# Altium schematic symbol library 0826-1X1T-43.SchLib: 1 symbol
Pins are listed as number, name and electrical type; pins without a type are passive.

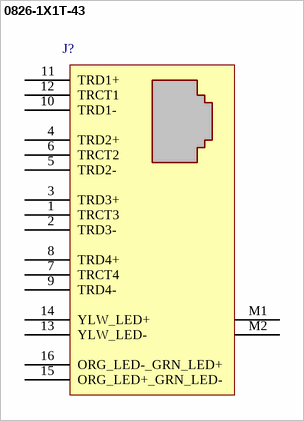
[diagram p0: symbol 0826-1X1T-43]

## 0826-1X1T-43
designator J?
pins: 1 TRCT3, 2 TRD3-, 3 TRD3+, 4 TRD2+, 5 TRD2-, 6 TRCT2, 7 TRCT4, 8 TRD4+, 9 TRD4-, 10 TRD1-, 11 TRD1+, 12 TRCT1, 13 YLW_LED-, 14 YLW_LED+, 15 ORG_LED+_GRN_LED-, 16 ORG_LED-_GRN_LED+, M1, M2